# Altium integrated library Test_TG21.IntLib: 9 symbols
Pins are listed as number, name and electrical type; pins without a type are passive.

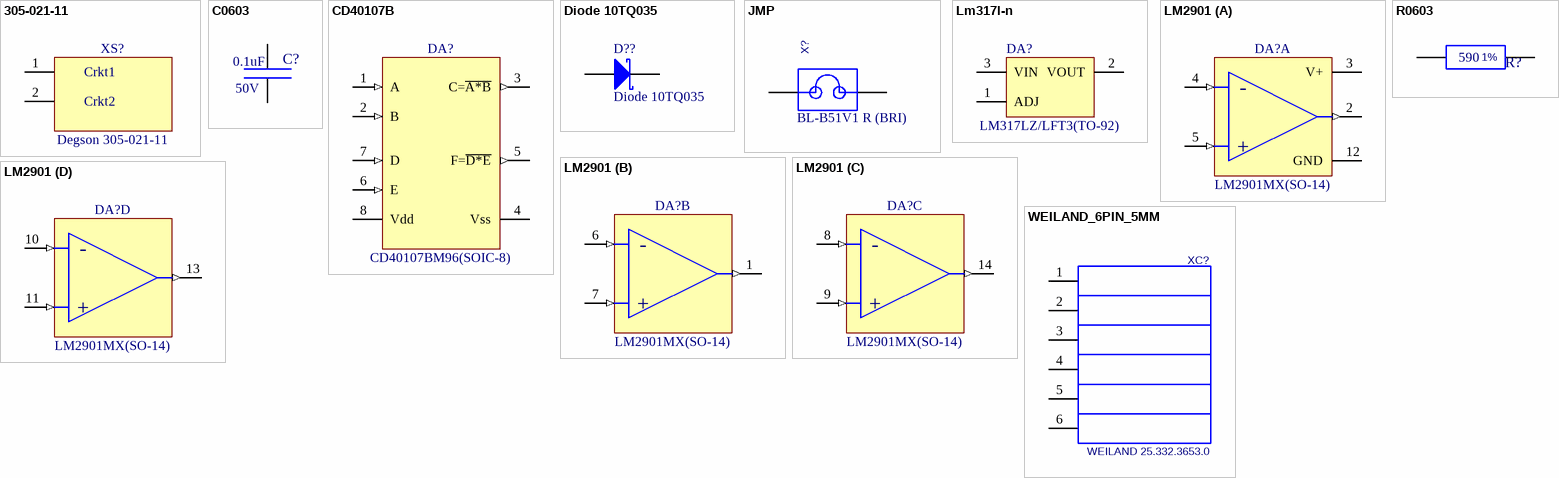
[diagram p0: symbols 305-021-11 to WEILAND_6PIN_5MM]

## 305-021-11
designator XS?, comment Degson 305-021-11
Клеммник винтовой, 2-контактный, 5мм, прямой; parType: Straight; cmpCategory: Industrial; cmpDescription: Degson Клеммник винтовой 5mm pitch,2 pins, Straight; cmpPinCount: 2; cmpPitch: 5mm; Category: Разъем; cmpPartNum: 305-021-11; cmpManufacturer: Degson; cmpType: Клеммник винтовой
footprint 305-021-11 (Клеммник 2 контакта)
pins: 1, 2
text: Crkt1; Crkt2

## C0603
designator C?, comment value 0.1uF  parVoltage: 50V  (hidden comment: чип 0603 0.1uF/50V,)
C0603; cmpDescription: чип 0603 0.1uF , 50V, ,; Category: Конденсатор; cmpPkg: чип 0603
footprint CAPC1608X50(0603)
simulation model C0603 (MLCC)
pins: 1 P1, 2 P2

## CD40107B
designator DA?, comment CD40107BM96(SOIC-8)
CMOS Dual 2-Input NAND Buffer/Driver; cmpManufacturer: TI; parOTemp: -55°C to 125°C; cmpDescription: TI CD40107BM96 (SOIC-8), -55°C to 125°C; Value: *; Category: Микросхема; Примечание: *; cmpPartNum: CD40107BM96; cmpPkg: SOIC-8
footprint SOIC127P600-8N (SOIC, 8-Leads, Body 4.9x3.9mm, Pitch 1.27mm, IPC Medium Density)
pins: 1 A (in), 2 B (in), 3 C=~{A*B} (out), 4 Vss, 5 F=~{D*E} (out), 6 E (in), 7 D (in), 8 Vdd

## Diode 10TQ035
designator D??
Schottky Rectifier; Note: Terminal 2 is the TAB and is electrically connected to the cathode; Published: 8-Jun-2000; LatestRevisionDate: 17-Jul-2002; LatestRevisionNote: Re-released for DXP Platform.; DatasheetVersion: PD-2.057B; PackageVersion: Feb-1998; PackageReference: TO-220AC; Publisher: Altium Limited; PackageDescription: TO, Thru-Hole, Vertical, Heatsink Mounted; 3 In-Line Leads (1 Absent); Pitch 2.54 mm; ComponentLink1Description: Manufacturer Link; ComponentLink1URL: http://www.irf.com/; ComponentLink2Description: Datasheet; ComponentLink2URL: http://www.irf.com/product-info/datasheets/data/10tq.pdf
footprint TO-220AC (TO, Thru-Hole, Vertical, Heatsink Mounted; 3 In-Line Leads (1 Absent); Pitch 2.54 mm)
simulation model 10TQ035 (DIODE)
pins: 1 K, 3 A

## JMP
designator X?  value BL-B51V1 R (BRI)  (hidden comment: JMP)
footprint JMP
pins: 1, 2

## Lm317l-n
designator DA?, comment LM317LZ/LFT3(TO-92)
3-Terminal Adjustable Regulator; cmpManufacturer: TI; cmpDescription: TI LM317LZ/LFT3 (TO-92), -40°C to 125°C; parOTemp: -40°C to 125°C; cmpPartNum: LM317LZ/LFT3; cmpPkg: TO-92; Category: Микросхема
footprint PBCY-W3; pin to pad 4>2
footprint SOT230P700X180-4N(SOT223)_NUM
pins: 1 ADJ (power), 2 VOUT (power), 3 VIN (power), 4 VOUT (power)

## LM2901
designator DA?, comment LM2901MX(SO-14)
cmpManufacturer: TI; parOTemp: -40°C to 85°C; cmpDescription: TI LM2901MX (SO-14), -40°C to 85°C; Category: Микросхема; cmpPartNum: LM2901MX; cmpPkg: SO-14
footprint SOIC127P600X145-14M
part A pins: 2 Out (out), 3 V+, 4 IN- (in), 5 IN+ (in), 12 GND
part B pins: 1 Out (out), 6 IN- (in), 7 IN+ (in)
part C pins: 8 IN- (in), 9 IN+ (in), 14 Out (out)
part D pins: 10 IN- (in), 11 IN+ (in), 13 Out (out)
part A text: -; +
part B text: -; +
part C text: -; +
part D text: -; +

## R0603
designator R?, comment value 590  Tolerance: 1%  (hidden comment: чип 0603 590 1%)
R0603; cmpDescription: чип 0603 590 1%, 100 мВт, ,; parPwr: 100 мВт; Category: Резистор; cmpPkg: чип 0603
footprint RESC1608X45(0603)
footprint RESC1608X06L(0603) (Chip Resistor, 2-Leads, Body 1.6x0.8mm, IPC High Density)
simulation model R0603 (General Purpose Resistor)
pins: 1, 2

## WEILAND_6PIN_5MM
designator XC?, comment WEILAND 25.332.3653.0
WEILAND_6PIN_5MM; cmpCategory: Industrial; cmpDescription: pitch, pins,; Value: *; Category: Разъем; cmpPartNum: WEILAND 25.332.3653.0
footprint WEILAND_25.332.3653.0 (WEILAND_6PIN_5MM)
pins: 1, 2, 3, 4, 5, 6